# EAGLE library part PINHD-1X06/1MM (library headers)
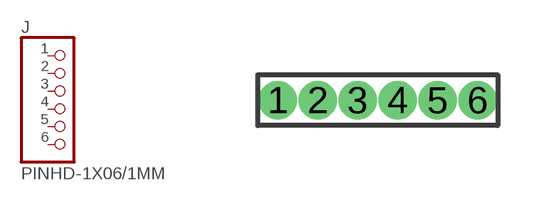
[diagram p9: symbol with the pads of 1X6/1MM; footprint 1X6/1MM]

Designator prefix J

## PINHD-1X06/1MM  [1X6/1MM]
1  1  pas
2  2  pas
3  3  pas
4  4  pas
5  5  pas
6  6  pas

## Footprint 1X6/1MM (pad centres in mm)
drill 0.45 pad 0.8: 1 -2.5,0; 2 -1.5,0; 3 -0.5,0; 4 0.5,0; 5 1.5,0; 6 2.5,0